# Altium footprint library footprints.PcbLib: 160 footprints (part 6 of 10)
Each footprint in its own frame and in the unit in brackets; x right, y up, seen from the top. Pads: shape width x height; smd on the part's side, far side on the other; paste and mask are expansions set on the pad; w line width, h text height; cw(c..) or ccw(c..) is an arc to the next point about the centre after c.
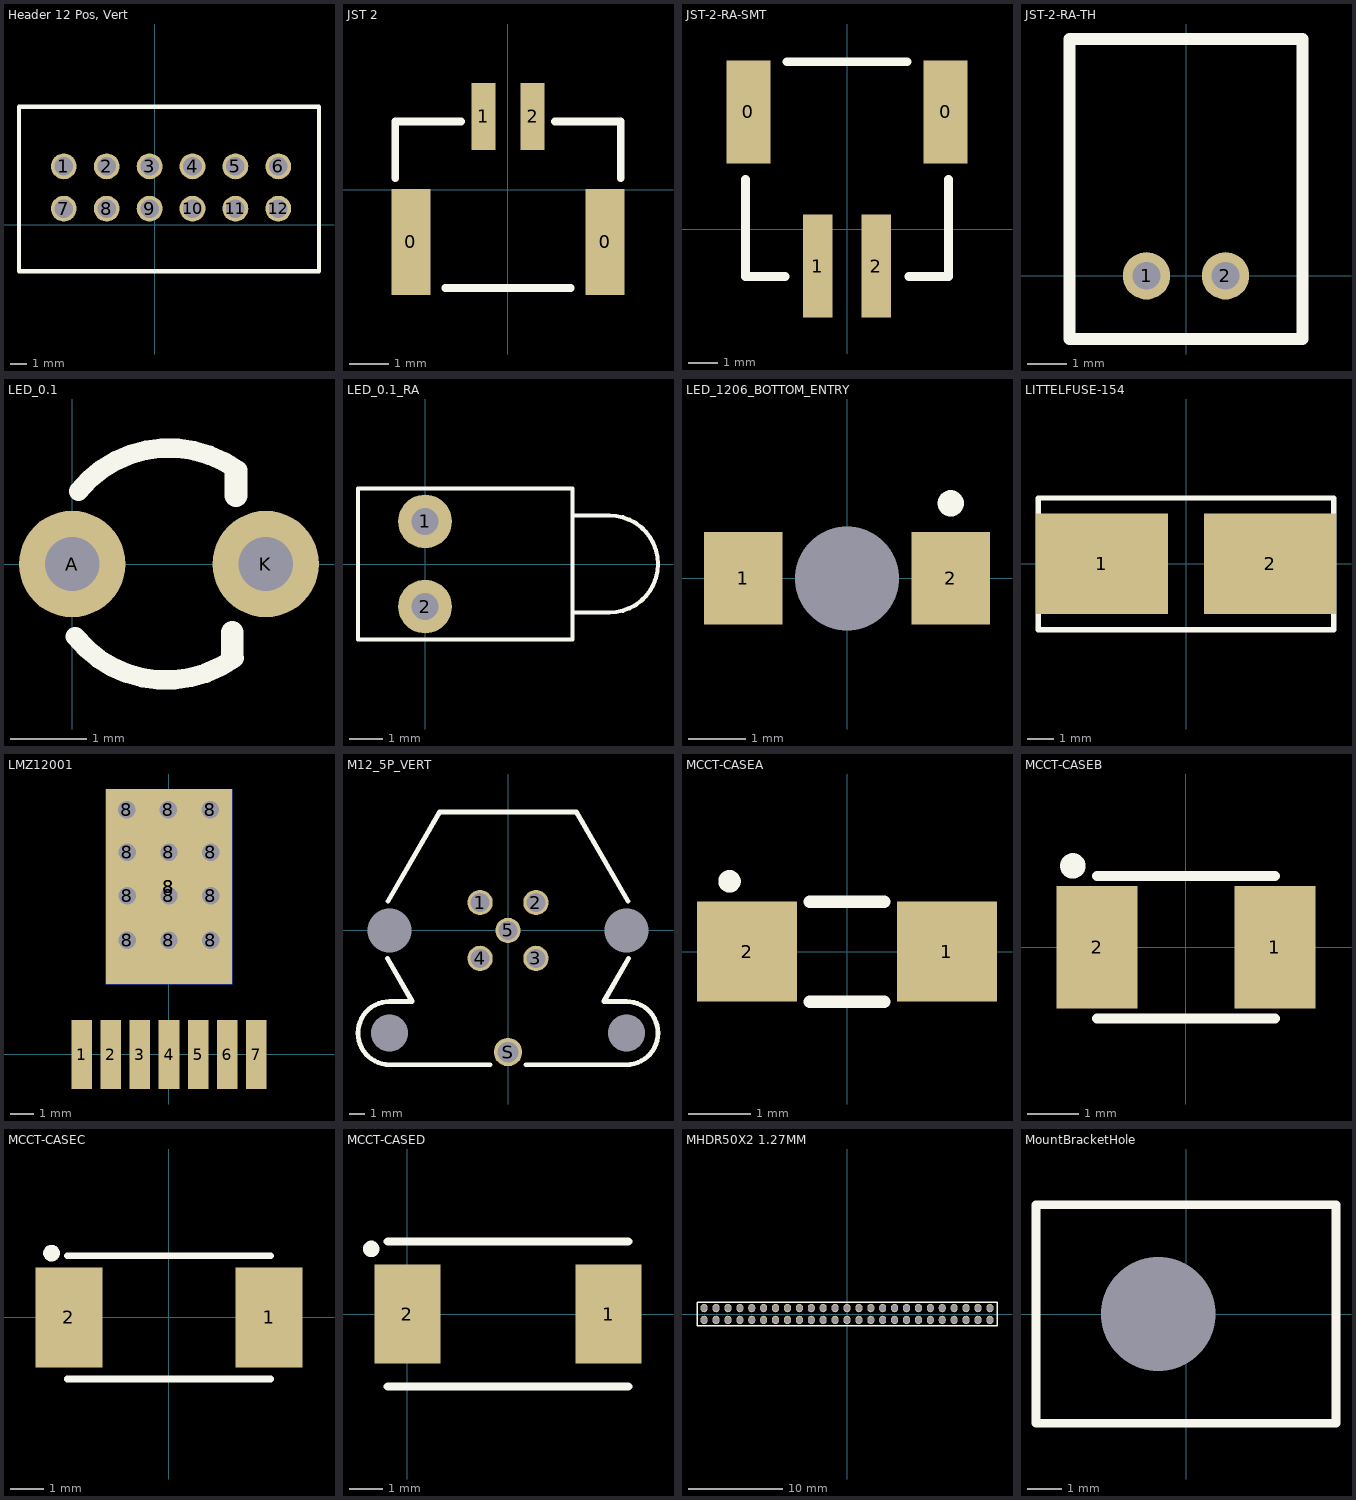
[diagram p5: the footprints below, top view; thin cyan lines are the x and y axes]

## Header 12 Pos, Vert [mm] "For 90130-1112 Digikey Part"
pads (12):
  round 1.524 hole 1.1: 1(-5.4,3.45) 2(-2.86,3.45) 3(-0.32,3.45) 4(2.22,3.45) 5(4.76,3.45) 6(7.3,3.45) 7(-5.4,0.95) 8(-2.86,0.95) 9(-0.32,0.95) 10(2.22,0.95) 11(4.76,0.95) 12(7.3,0.95)
Top Overlay:
  lines w0.254: -8.05,-2.75 9.708,-2.75 9.708,4.575 9.708,6.975 -8.05,6.975 -8.05,4.575 -8.05,-2.75
3D body: height 10.89, standoff -2.91, extent -7.74,-2.75 9.84,7

## JST 2 [mm] "455-1564-1-ND"
pads (4):
  rect 1x2.7 smd: 0(-2.475,-1.325) 0(2.475,-1.325)
  rect 0.6x1.7 smd: 1(-0.625,1.875) 2(0.625,1.875)
Top Overlay:
  lines w0.2: -2.875,0.3 -2.875,1.75 -1.2,1.75 ; -1.6,-2.5 1.6,-2.5 ; 1.2,1.75 2.875,1.75 2.875,0.3

## JST-2-RA-SMT [mm] "2 pin JST connector right angle, tSMT"
pads (4):
  rect 1.5x3.5 smd: 0(-3.35,4) 0(3.35,4)
  rect 1x3.5 smd: 1(-1,-1.25) 2(1,-1.25)
Top Overlay:
  lines w0.3: -3.45,1.7 -3.45,-1.6 -2.1,-1.6 ; -2.05,5.7 2.05,5.7 ; 2.1,-1.6 3.45,-1.6 3.45,1.7

## JST-2-RA-TH [mm] "2 pin JST connector right angle, though hole"
pads (2):
  round 1.2 hole 0.7: 1(-1,0) 2(1,0)
Top Overlay:
  lines w0.3: -2.95,-1.6 2.95,-1.6 2.95,6 -2.95,6 -2.95,-1.6

## LED_0.1 [mil]
pads (2):
  round 55 hole 28: A(0,0) K(100,0)
Top Overlay:
  lines w10: 1.57,-37.48 ccw(c48.43,0) 83.64,-48.58 ; 3.23,37.58 cw(c50,0) 85.48,48.38
  lines w11.81: 82.68,-47.24 82.68,-35.43 ; 84.65,35.43 84.65,47.24

## LED_0.1_RA [mm] "LED; 2 Leads"
pads (2):
  round 1.6 hole 0.8: 1(0,1.27) 2(0,-1.27)
Top Overlay:
  lines w0.127: 4.4,-1.45 5.5,-1.45 ccw(c5.5,0) 5.5,1.45 4.4,1.45 ; -2,-2.25 4.4,-2.25 4.4,2.25 -2,2.25 -2,-2.25

## LED_1206_BOTTOM_ENTRY [mm]
pads (3):
  round 0 hole 1.8: 0(0,0)
  rect 1.35x1.6 smd: 1(-1.795,0) 2(1.795,0)
Top Overlay:
  circle w0.254: c1.795,1.3 r0.1

## LITTELFUSE-154 [mm]
pads (2):
  rect 5x3.81 smd: 1(-3.185,0) 2(3.185,0)
Top Overlay:
  lines w0.2: -5.6,-2.51 -5.6,0 ; -5.6,-2.5 5.6,-2.5 5.6,2.5 -5.6,2.5 -5.6,-0.01

## LMZ12001 [mm]
pads (21):
  rect 0.9x3 smd: 1(-3.81,-0.025) 2(-2.54,-0.025) 3(-1.27,-0.025) 4(0,-0.025) 5(1.27,-0.025) 6(2.54,-0.025) 7(3.81,-0.025)
  round 1.524 hole 0.762: 8(-1.85,10.65) 8(-1.825,4.95) 8(-1.825,6.9) 8(-1.825,8.8) 8(-0.025,10.65) 8(0,4.95) 8(0,6.9) 8(0,8.8) 8(1.8,10.65) 8(1.825,4.95) 8(1.825,6.9) 8(1.825,8.8)
  rect 5.5x8.5 smd: 8(0,7.3)
  rect 5.5x8.5 smd far side: 8(0,7.3)

## M12_5P_VERT [mm] "M12 Connector Vertical"
height 12
pads (10):
  round 0 hole 2.35: 0(-7.5,-6.5) 0(7.5,-6.5)
  round 0 hole 2.8: 0(-7.5,0) 0(7.5,0)
  round 1.6 hole 1.2: 1(-1.768,1.768) 2(1.768,1.768) 3(1.768,-1.768) 4(-1.768,-1.768) 5(0,0)
  round 1.8 hole 1.3: S(0,-7.7)
Top Overlay:
  lines w0.3: -7.633,-1.78 -6.062,-4.5 -7.5,-4.5 ccw(c-7.5,-6.5) -7.5,-8.5 -1.125,-8.5 ; -7.594,1.847 -4.32,7.517 ; -4.341,7.5 4.35,7.5 ; 1.125,-8.5 7.5,-8.5 ccw(c7.5,-6.5) 7.5,-4.5 6.071,-4.5 ; 4.32,7.517 7.594,1.847 ; 6.062,-4.5 7.633,-1.78

## MCCT-CASEA [mm]
pads (2):
  rect 1.6x1.6 smd: 1(1.6,0) 2(-1.6,0)
Top Overlay:
  circle w0.2: c-1.88,1.125 r0.08
  lines w0.2: -0.6,-0.8 0.6,-0.8 ; -0.6,0.8 0.6,0.8

## MCCT-CASEB [mm]
pads (2):
  rect 1.6x2.4 smd: 1(1.75,0) 2(-1.75,0)
Top Overlay:
  circle w0.25: c-2.225,1.6 r0.125
  lines w0.2: -1.75,-1.4 1.75,-1.4 ; -1.75,1.4 1.75,1.4

## MCCT-CASEC [mm]
pads (2):
  rect 2x3 smd: 1(3,0) 2(-3,0)
Top Overlay:
  circle w0.25: c-3.525,1.925 r0.125
  lines w0.2: -3.05,-1.85 3.05,-1.85 ; -3.05,1.85 3.05,1.85

## MCCT-CASED [mm]
pads (2):
  rect 2x3 smd: 1(6.1,0) 2(0,0)
Top Overlay:
  circle w0.25: c-1.1,1.975 r0.125
  lines w0.254: -0.6,-2.2 6.7,-2.2 ; -0.6,2.2 6.7,2.2

## MHDR50X2 1.27MM [mm]
pads (50):
  oval 0.75x0.9 hole 0.65: 1(-15.24,-0.635) 2(-15.24,0.635) 3(-13.97,-0.635) 4(-13.97,0.635) 5(-12.7,-0.635) 6(-12.7,0.635) 7(-11.43,-0.635) 8(-11.43,0.635) 9(-10.16,-0.635) 10(-10.16,0.635) 11(-8.89,-0.635) 12(-8.89,0.635) 13(-7.62,-0.635) 14(-7.62,0.635) 15(-6.35,-0.635) 16(-6.35,0.635) 17(-5.08,-0.635) 18(-5.08,0.635) 19(-3.81,-0.635) 20(-3.81,0.635) 21(-2.54,-0.635) 22(-2.54,0.635) 23(-1.27,-0.635) 24(-1.27,0.635) 25(0,-0.635) 26(0,0.635) 27(1.27,-0.635) 28(1.27,0.635) 29(2.54,-0.635) 30(2.54,0.635) 31(3.81,-0.635) 32(3.81,0.635) 33(5.08,-0.635) 34(5.08,0.635) 35(6.35,-0.635) 36(6.35,0.635) 37(7.62,-0.635) 38(7.62,0.635) 39(8.89,-0.635) 40(8.89,0.635) 41(10.16,-0.635) 42(10.16,0.635) 43(11.43,-0.635) 44(11.43,0.635) 45(12.7,-0.635) 46(12.7,0.635) 47(13.97,-0.635) 48(13.97,0.635) 49(15.24,-0.635) 50(15.24,0.635)
Top Overlay:
  lines w0.152: -16,-1.27 16,-1.27 16,1.27 -16,1.27 -16,-1.27

## MountBracketHole [mm]
pads (1):
  round 0 hole 3.32: 0(-0.805,0)
Top Overlay:
  lines w0.254: -4.355,-3.175 4.355,-3.175 4.355,3.175 -4.355,3.175 -4.355,-3.175